# EAGLE library part 1X12-1.27MM (library PonLib)
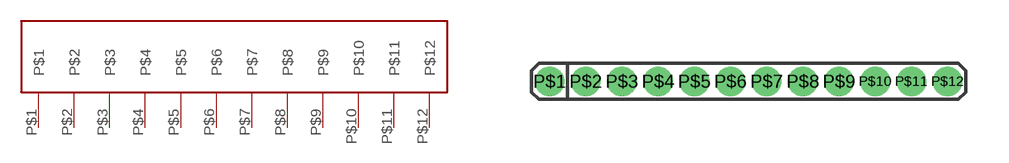
[diagram p20: symbol with the pads of 1X12-1.27MM; footprint 1X12-1.27MM]

Designator prefix -

## 1X12-1.27MM  [1X12-1.27MM]
P$1  P$1
P$2  P$2
P$3  P$3
P$4  P$4
P$5  P$5
P$6  P$6
P$7  P$7
P$8  P$8
P$9  P$9
P$10  P$10
P$11  P$11
P$12  P$12

## Footprint 1X12-1.27MM (pad centres in mm)
drill 0.533 pad 0.889: P$1 -6.985,0; P$2 -5.715,0; P$3 -4.445,0; P$4 -3.175,0; P$5 -1.905,0; P$6 -0.635,0; P$7 0.635,0; P$8 1.905,0; P$9 3.175,0; P$10 4.445,0; P$11 5.715,0; P$12 6.985,0